# EAGLE library part MICROCHIP-PIC24_PIC24FJ64GB004-I/ML (library Mother-Board-rev5)
IC MCU 16BIT 64KB FLASH,QFN-44
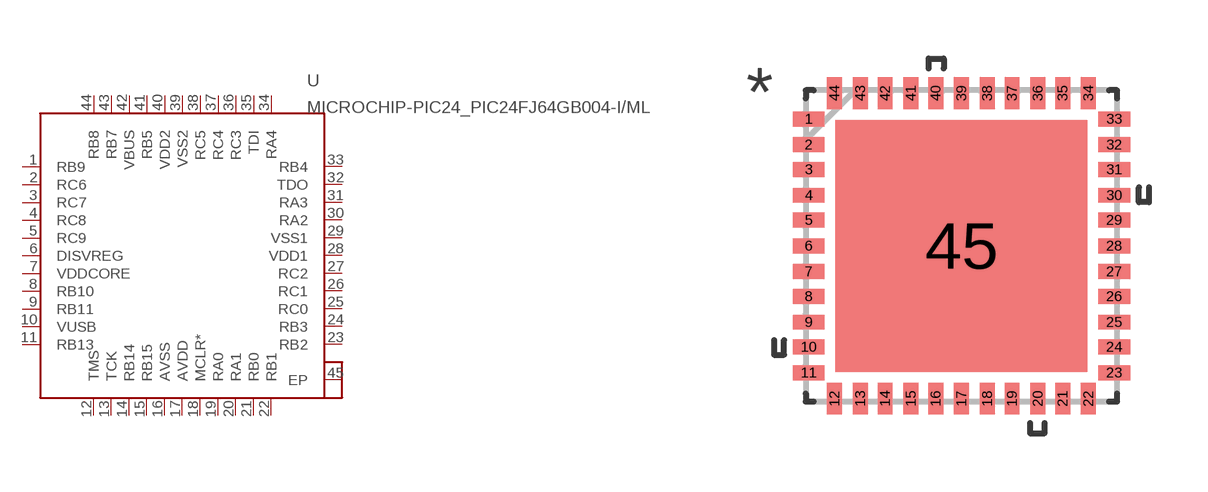
[diagram p3: symbol with the pads of MICROCHIP-PIC24_QFN65P800X800X100-45N; footprint MICROCHIP-PIC24_QFN65P800X800X100-45N]

Designator prefix U

## MICROCHIP-PIC24_PIC24FJ64GB004-I/ML (MPN: PIC24FJ64GB004-I/ML; OC_FARNELL: 1778486; OC_NEWARK: 45P4826; PACKAGE: QFN-44; SUPPLIER: Microchip)  [MICROCHIP-PIC24_QFN65P800X800X100-45N]
1  RB9
2  RC6
3  RC7
4  RC8
5  RC9
6  DISVREG  pas
7  VDDCORE  pwr
8  RB10
9  RB11
10  VUSB  pas
11  RB13
12  TMS  in
13  TCK  in
14  RB14
15  RB15
16  AVSS  pwr
17  AVDD  pwr
18  MCLR*
19  RA0
20  RA1
21  RB0
22  RB1
23  RB2
24  RB3
25  RC0
26  RC1
27  RC2
28  VDD1  pwr
29  VSS1  pwr
30  RA2
31  RA3
32  TDO  out
33  RB4
34  RA4
35  TDI  in
36  RC3
37  RC4
38  RC5
39  VSS2  pwr
40  VDD2  pwr
41  RB5
42  VBUS  pas
43  RB7
44  RB8
45  EP

## Footprint MICROCHIP-PIC24_QFN65P800X800X100-45N (pad centres in mm)
smd 0.813 x 0.381: 1 -3.912,3.251; 2 -3.912,2.591; 3 -3.912,1.956; 4 -3.912,1.295; 5 -3.912,0.66; 6 -3.912,0; 7 -3.912,-0.66; 8 -3.912,-1.295; 9 -3.912,-1.956; 10 -3.912,-2.591; 11 -3.912,-3.251; 23 3.912,-3.251; 24 3.912,-2.591; 25 3.912,-1.956; 26 3.912,-1.295; 27 3.912,-0.66; 28 3.912,0; 29 3.912,0.66; 30 3.912,1.295; 31 3.912,1.956; 32 3.912,2.591; 33 3.912,3.251
smd 0.381 x 0.813: 12 -3.251,-3.912; 13 -2.591,-3.912; 14 -1.956,-3.912; 15 -1.295,-3.912; 16 -0.66,-3.912; 17 0,-3.912; 18 0.66,-3.912; 19 1.295,-3.912; 20 1.956,-3.912; 21 2.591,-3.912; 22 3.251,-3.912; 34 3.251,3.912; 35 2.591,3.912; 36 1.956,3.912; 37 1.295,3.912; 38 0.66,3.912; 39 0,3.912; 40 -0.66,3.912; 41 -1.295,3.912; 42 -1.956,3.912; 43 -2.591,3.912; 44 -3.251,3.912
smd 6.452 x 6.452: 45 0,0